# Altium schematic symbol library Mechanical.SchLib: 3 symbols
Pins are listed as number, name and electrical type; pins without a type are passive.

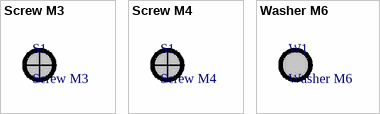
[diagram p0: symbols Screw M3 to Washer M6]

## Screw M3
designator S1
footprint Screw M3

## Screw M4
designator S1
footprint Screw M4

## Washer M6
designator W1
footprint Washer M6